# Altium schematic symbol library BSS84.SchLib: 1 symbol
Pins are listed as number, name and electrical type; pins without a type are passive.

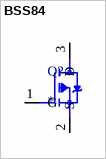
[diagram p0: symbol BSS84]

## BSS84
designator Q?
BSS84 Series 50 V 10 Ohms P-Ch Enhancement Mode Field Effect Transistor SOT-23-3; MF: {'manufacturer': u'ON Semiconductor'}; Package: None; Price: None; Value: *; MP: BSS84; Availability: Unavailable
footprint SOT95P240X120-3N
pins: 1 G, 2 S, 3 D